# Altium schematic symbol library CRCW080530K1FKEA.SchLib: 1 symbol
Pins are listed as number, name and electrical type; pins without a type are passive.

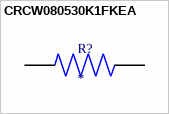
[diagram p0: symbol CRCW080530K1FKEA]

## CRCW080530K1FKEA
designator R?
RESISTOR, 0805, 30K1, 1%, FULL REEL; MP: CRCW080530K1FKEA; Package: None; Price: None; Value: *; Availability: Unavailable
footprint RESC2012X50N
pins: 1, 2